# Altium footprint library WCAP-FTX2_P15L18W6H12_CS.PcbLib: 1 footprints
Each footprint in its own frame and in the unit in brackets; x right, y up, seen from the top. Pads: shape width x height; smd on the part's side, far side on the other; paste and mask are expansions set on the pad; w line width, h text height; cw(c..) or ccw(c..) is an arc to the next point about the centre after c.
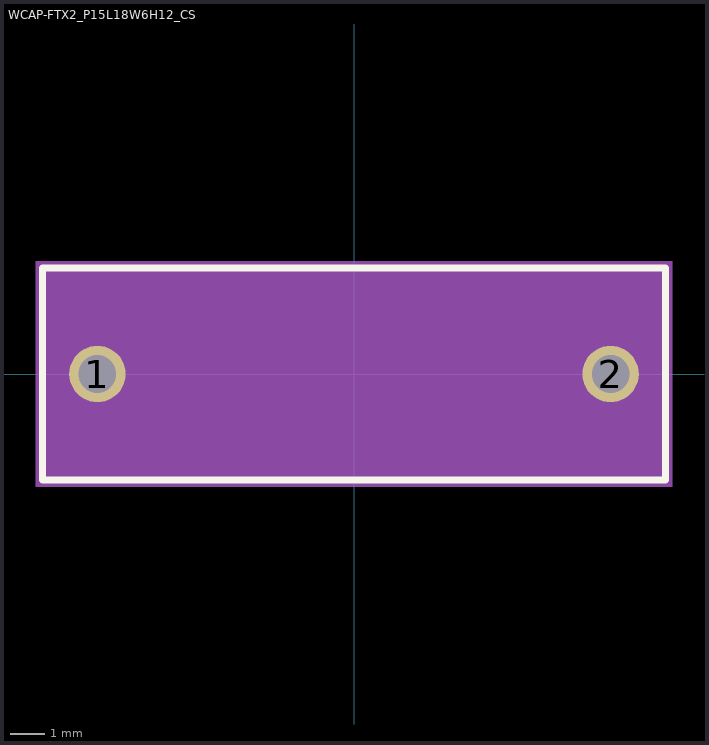
[diagram p0: the footprint, top view; thin cyan lines are the x and y axes]

## WCAP-FTX2_P15L18W6H12_CS [mm]
pads (2):
  round 1.65 hole 1.1: 1(-7.5,0) 2(7.5,0)
Top Overlay:
  lines w0.2: -9.1,-3.1 -9.1,3.1 9.1,3.1 9.1,-3.1 -9.1,-3.1
Assembly Top:
  lines w0.1: -9,-3 -9,3 9,3 9,-3 -9,-3
Courtyard Top:
  region: 9.3,-3.3 -9.3,-3.3 -9.3,3.3 9.3,3.3
3D body "step_temp.STEP": height 12.04, standoff -3.96, extent -9,-3 9,3